# Altium schematic symbol library ABS25.SchLib: 1 symbol
Pins are listed as number, name and electrical type; pins without a type are passive.

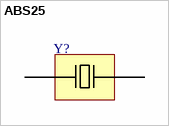
[diagram p0: symbol ABS25]

## ABS25
designator Y?  (value not drawn)
4-pin 8.0x3.8mm Low-Frequency Quartz Crystal
pins: 1 OSC1, 2 NC hidden, 3 NC hidden, 4 OSC2